# Altium schematic symbol library Graphics.SchLib: 2 symbols
Pins are listed as number, name and electrical type; pins without a type are passive.

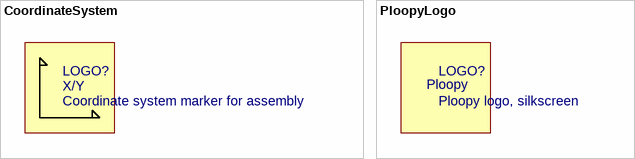
[diagram p0: symbols CoordinateSystem to PloopyLogo]

## CoordinateSystem
designator LOGO?, comment Coordinate system marker for assembly  (no BOM)
footprint Coordinate System
text: X/Y

## PloopyLogo
designator LOGO?, comment Ploopy logo, silkscreen  (no BOM)
PNP-Nzl: 2; PNP-dx: 0; PNP-X: 1; PNP-TS: 70; PNP-Type: CHI; PNP-FeedType: Tape; PNP-TapeWidth: 8; PNP-dy: 0; PNP-Y: 1; PNP-A: 0; PNP-Pt: 0; PNP-W: 0; PNP-Thk: 1; PNP-Lv: 1; PNP-Level: 1; PNP-Voff: 0; PNP-PlacePriority: 1; PNP-TapeIndex: 1; PNP-da: 0
footprint PloopyLogo
text: Ploopy